# EAGLE library part TPS60150_DRV_6 (library TPS60150)
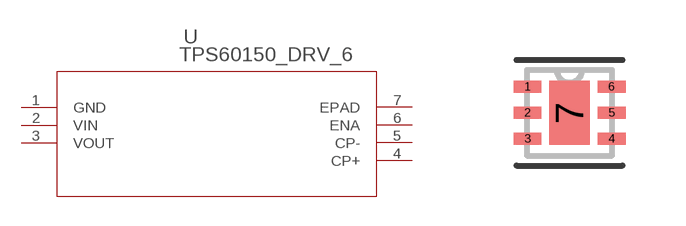
[diagram p0: symbol with the pads of DRV6_1P6X1; footprint DRV6_1P6X1]

Designator prefix U

## TPS60150_DRV_6 (MANUFACTURER_PART_NUMBER: tps60150_drv_6; VENDOR: Texas Instruments)  [DRV6_1P6X1]
1  GND  pwr
2  VIN  in
3  VOUT  pas
4  CP+  pas
5  CP-  pas
6  ENA  in
7  EPAD  pas

## Footprint DRV6_1P6X1 (pad centres in mm)
smd 0.7 x 0.3: 1 -1.05,0.65; 2 -1.05,0; 3 -1.05,-0.65; 4 1.05,-0.65; 5 1.05,0; 6 1.05,0.65
smd 1.016 x 1.6: 7 0,0